# EAGLE library part RGB-LED (library LEDs)
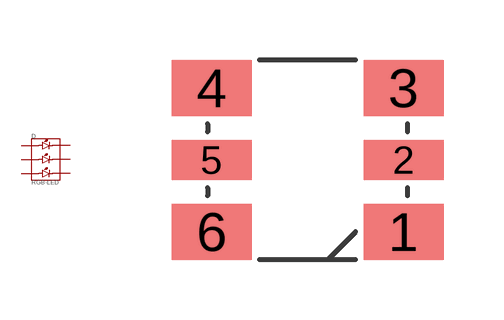
[diagram p0: symbol with the pads of QBLP679E-RGB; footprint QBLP679E-RGB]

Designator prefix D

## RGB-LED-QBLP679E  [QBLP679E-RGB]
1  CATHODE1  pas
2  CATHODE2  pas
3  CATHODE3  pas
4  ANODE3  pas
5  ANODE2  pas
6  ANODE1  pas

## Footprint QBLP679E-RGB (pad centres in mm)
smd 2 x 1.4: 1 2.4,-1.8; 3 2.4,1.8; 4 -2.4,1.8; 6 -2.4,-1.8
smd 2 x 1: 2 2.4,0; 5 -2.4,0